# EAGLE library part MOON (library moon)
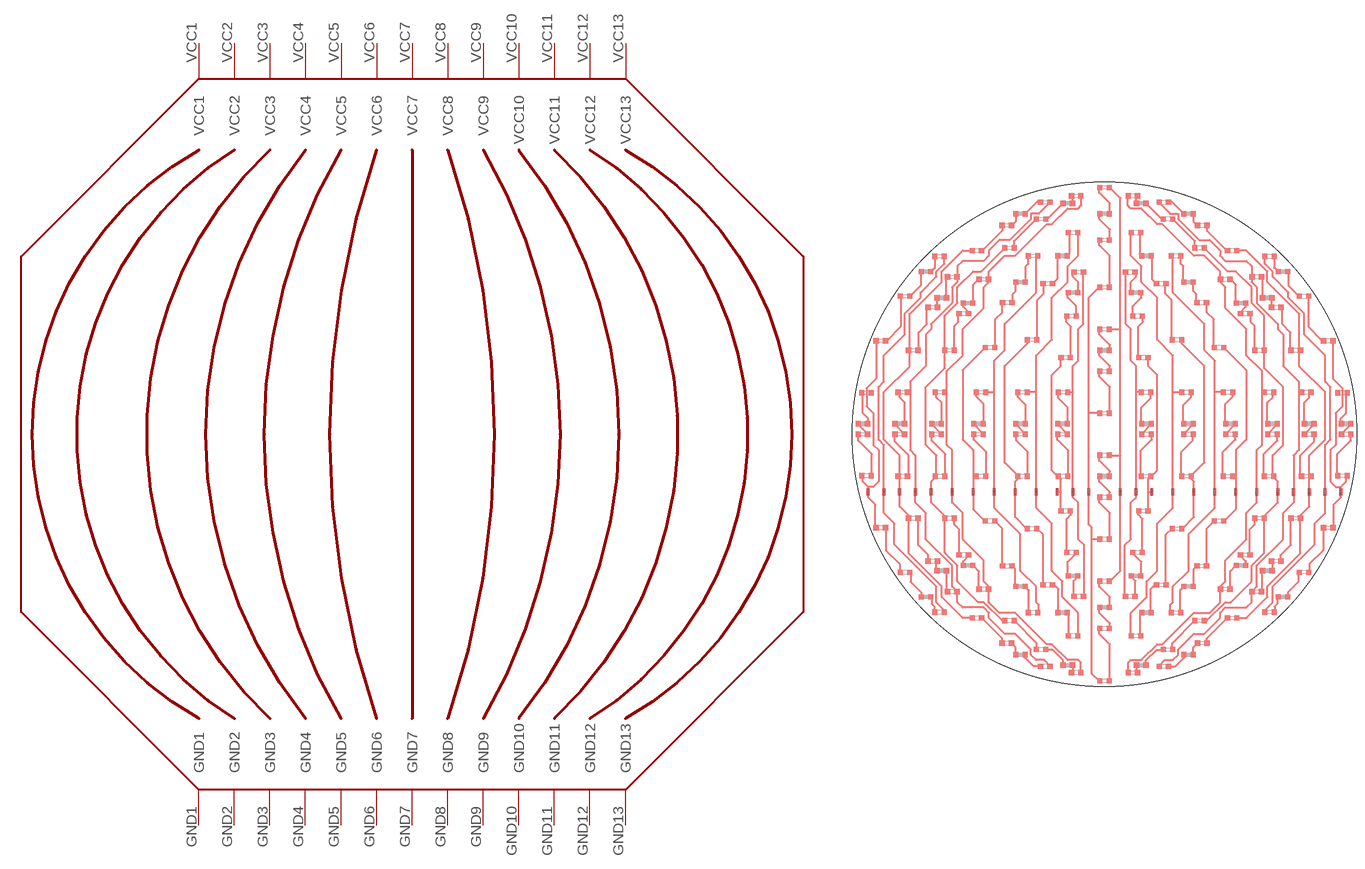
[diagram p0: symbol with the pads of MOON; footprint MOON]

Designator prefix -

## MOON  [MOON]
GND1  GND1
GND2  GND2
GND3  GND3
GND4  GND4
GND5  GND5
GND6  GND6
GND7  GND7
GND8  GND8
GND9  GND9
GND10  GND10
GND11  GND11
GND12  GND12
GND13  GND13
VCC1  VCC1
VCC2  VCC2
VCC3  VCC3
VCC4  VCC4
VCC5  VCC5
VCC6  VCC6
VCC7  VCC7
VCC8  VCC8
VCC9  VCC9
VCC10  VCC10
VCC11  VCC11
VCC12  VCC12
VCC13  VCC13

## Footprint MOON (pad centres in mm)
smd 0.635 x 1.27: GND1 -42,-11; GND2 -36,-11; GND3 -29,-11; GND4 -21,-11; GND5 -13,-11; GND6 -6,-11; GND7 3,-11; GND8 9,-11; GND9 17,-11; GND10 25,-11; GND11 33,-11; GND12 39,-11; GND13 45,-11; VCC1 -45,-11; VCC2 -39,-11; VCC3 -33,-11; VCC4 -25,-11; VCC5 -17,-11; VCC6 -9,-11; VCC7 -3,-11; VCC8 6,-11; VCC9 13,-11; VCC10 21,-11; VCC11 29,-11; VCC12 36,-11; VCC13 42,-11